# EAGLE library part MICROSD (library _modules)
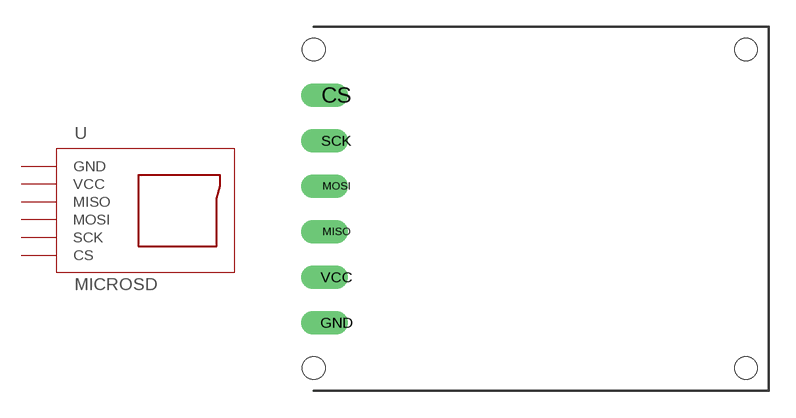
[diagram p2: symbol with the pads of MICROSD; footprint MICROSD]

Designator prefix -

## MICROSD  [MICROSD]
CS  CS
GND  GND
MISO  MISO
MOSI  MOSI
SCK  SCK
VCC  VCC

## Footprint MICROSD (pad centres in mm)
drill 0.813 offset: CS 0,0; GND 0,-12.7; MISO 0,-7.62; MOSI 0,-5.08; SCK 0,-2.54; VCC 0,-10.16
hole 1.27 at -1.27,2.54
hole 1.27 at -1.27,-15.24
hole 1.27 at 22.86,-15.24
hole 1.27 at 22.86,2.54